# EAGLE library part SLX2016 (library slx2016)
DOT MATRIX DISPLAY 180" 4 character 5x7 dot matrix Alphanumeric intelligent display with memory / decoder / driver.
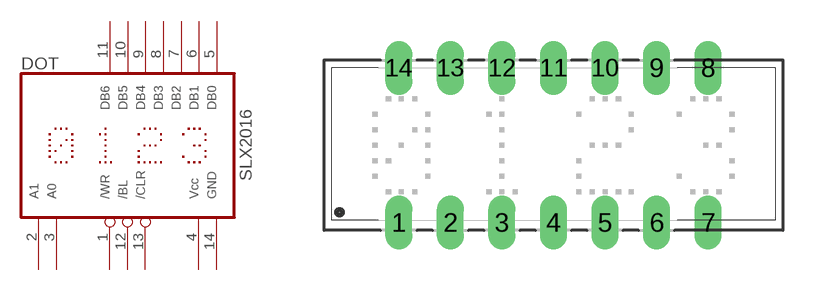
[diagram p0: symbol with the pads of SLX2016; footprint SLX2016]

Designator prefix DOT

## SLX2016  [SLX2016]
1  1
2  2
3  3
4  4
5  5
6  6
7  7
8  8
9  9
10  10
11  11
12  12
13  13
14  14

## Footprint SLX2016 (pad centres in mm)
DOT MATRIX DISPLAY 180" 4 character 5x7 dot matrix Alphanumeric intelligent display with memory / decoder / driver.
drill 0.813 long: 1 -7.62,-3.81; 2 -5.08,-3.81; 3 -2.54,-3.81; 4 0,-3.81; 5 2.54,-3.81; 6 5.08,-3.81; 7 7.62,-3.81; 8 7.62,3.81; 9 5.08,3.81; 10 2.54,3.81; 11 0,3.81; 12 -2.54,3.81; 13 -5.08,3.81; 14 -7.62,3.81